# EAGLE library part S8B-ZR-SM4A-TF (library misc)
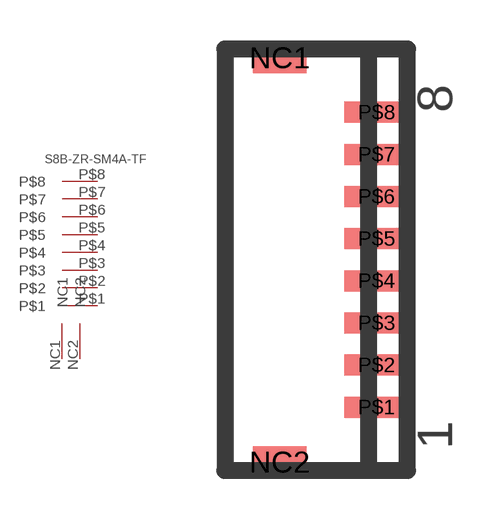
[diagram p0: symbol with the pads of S8B-ZR-SM4A-TF; footprint S8B-ZR-SM4A-TF]

Designator prefix -

## S8B-ZR-SM4A-TF  [S8B-ZR-SM4A-TF]
NC1  NC1
NC2  NC2
P$1  P$1
P$2  P$2
P$3  P$3
P$4  P$4
P$5  P$5
P$6  P$6
P$7  P$7
P$8  P$8

## Footprint S8B-ZR-SM4A-TF (pad centres in mm)
smd 1.9 x 1.1: NC1 -3.15,7.95; NC2 -3.15,-6.45
smd 2.3 x 0.75: P$1 0.3,-4.5; P$2 0.3,-3; P$3 0.3,-1.5; P$4 0.3,0; P$5 0.3,1.5; P$6 0.3,3; P$7 0.3,4.5; P$8 0.3,6